# Altium schematic symbol library Battery_Management.SchLib: 152 symbols (part 2 of 2)
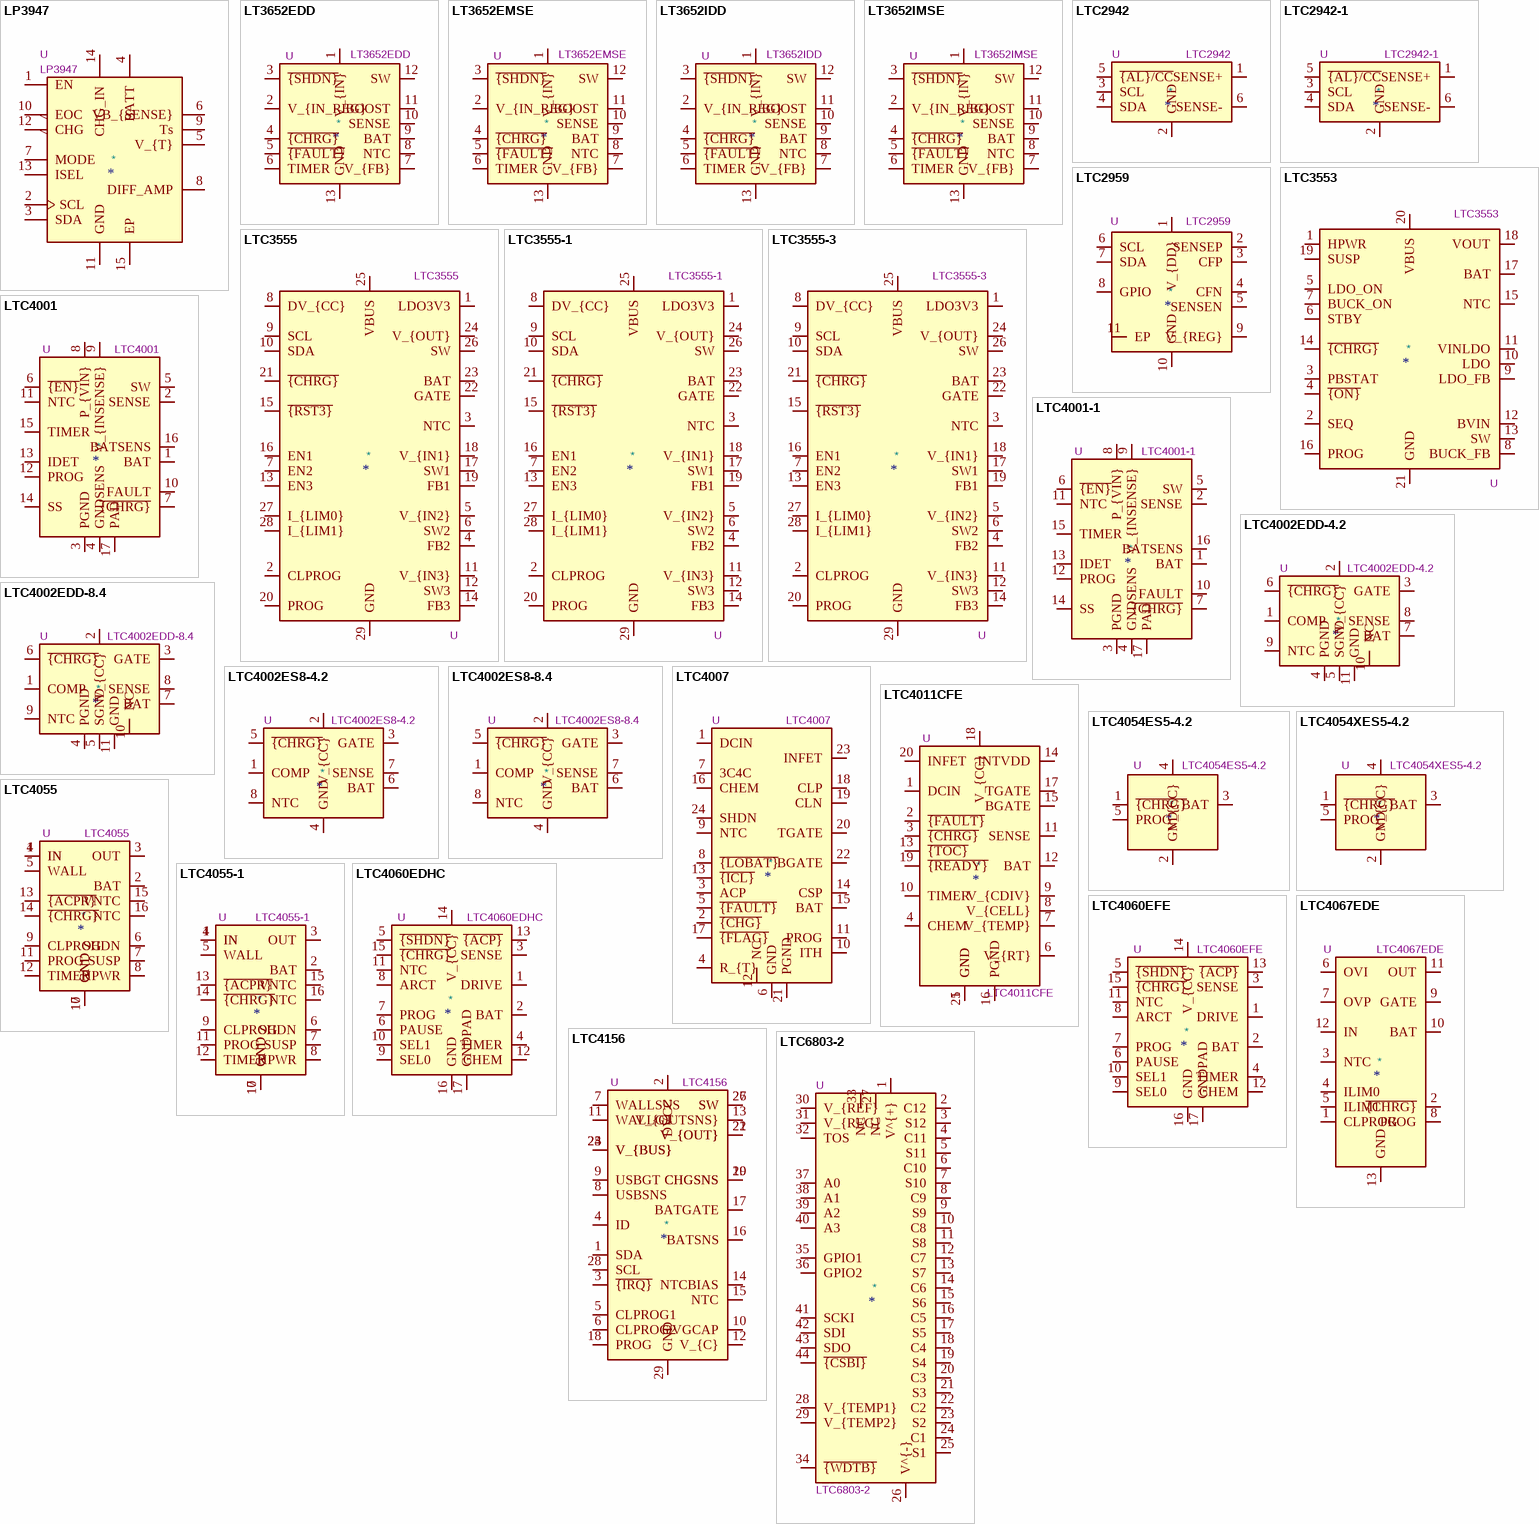
[diagram p5: symbols LP3947 to LTC6803-2]

## LTC4002ES8-4.2
designator *  value LTC4002ES8-4.2  Reference: U
Standalone Li-Ion Switch Mode Battery Charger, 4.7-22V input, single cell, SOIC-8; ki_keywords: lithium li-ion battery charger; ki_fp_filters: SOIC*8*3.9x4.9mm*P1.27mm*; Footprint: Package_SO:SOIC-8_3.9x4.9mm_P1.27mm; Datasheet: https://www.analog.com/media/en/technical-documentation/data-sheets/4002f.pdf; Description_: Standalone Li-Ion Switch Mode Battery Charger, 4.7-22V input, single cell, SOIC-8
pins: 1 COMP, 2 V_{CC}, 3 GATE, 4 GND, 5 ~{{CHRG}}, 6 BAT, 7 SENSE, 8 NTC

## LTC4002ES8-8.4
designator *  value LTC4002ES8-8.4  Reference: U
Standalone Li-Ion Switch Mode Battery Charger, 8.9-22V input, double cell, SOIC-8; ki_keywords: lithium li-ion battery charger; ki_fp_filters: SOIC*8*3.9x4.9mm*P1.27mm*; Footprint: Package_SO:SOIC-8_3.9x4.9mm_P1.27mm; Datasheet: https://www.analog.com/media/en/technical-documentation/data-sheets/4002f.pdf; Description_: Standalone Li-Ion Switch Mode Battery Charger, 8.9-22V input, double cell, SOIC-8
pins: 1 COMP, 2 V_{CC}, 3 GATE, 4 GND, 5 ~{{CHRG}}, 6 BAT, 7 SENSE, 8 NTC

## LTC4007
designator *  value LTC4007  Reference: U
4A high efficiency standalone Li-ion battery charger, SSOP-24; ki_keywords: lithium ion polymer li-po battery; ki_fp_filters: SSOP*3.9x8.7mm*P0.635mm*; Footprint: Package_SO:SSOP-24_3.9x8.7mm_P0.635mm; Datasheet: https://www.analog.com/media/en/technical-documentation/data-sheets/4007fc.pdf; Description_: 4A high efficiency standalone Li-ion battery charger, SSOP-24
pins: 1 DCIN, 2 ~{{CHG}}, 3 ACP, 4 R_{T}, 5 ~{{FAULT}}, 6 GND, 7 3C4C, 8 ~{{LOBAT}}, 9 NTC, 10 ITH, 11 PROG, 12 NC, 13 ~{{ICL}}, 14 CSP, 15 BAT, 16 CHEM, 17 ~{{FLAG}}, 18 CLP, 19 CLN, 20 TGATE, 21 PGND, 22 BGATE, 23 INFET, 24 SHDN

## LTC4011CFE
designator *  value LTC4011CFE  Reference: U
High efficiency standalone NiMH battery charger, HTSSOP-20; ki_keywords: NiMH nickel battery charger; ki_fp_filters: HTSSOP*1EP*4.4x6.5mm*P0.65mm*; Footprint: Package_SO:HTSSOP-20-1EP_4.4x6.5mm_P0.65mm_EP2.74x3.86mm; Datasheet: https://www.analog.com/media/en/technical-documentation/data-sheets/4011fb.pdf; Description_: High efficiency standalone NiMH battery charger, HTSSOP-20
pins: 1 DCIN, 2 ~{{FAULT}}, 3 ~{{CHRG}}, 4 CHEM, 5 GND, 6 V_{RT}, 7 V_{TEMP}, 8 V_{CELL}, 9 V_{CDIV}, 10 TIMER, 11 SENSE, 12 BAT, 13 ~{{TOC}}, 14 INTVDD, 15 BGATE, 16 PGND, 17 TGATE, 18 V_{CC}, 19 ~{{READY}}, 20 INFET, 21 GND

## LTC4054ES5-4.2
designator *  value LTC4054ES5-4.2  Reference: U
Constant-current/constant-voltage linear charger for single cell lithium-ion batteries with 2.9V Trickle Charge, 4.5V to 6.5V VDD, -40 to +85 degree Celsius, TSOT-23-5; ki_keywords: Constant-current constant-voltage linear charger single cell lithium-ion battery; ki_fp_filters: TSOT?23*; Footprint: Package_TO_SOT_SMD:TSOT-23-5; Datasheet: https://www.analog.com/media/en/technical-documentation/data-sheets/405442xf.pdf; Description_: Constant-current/constant-voltage linear charger for single cell lithium-ion batteries with 2.9V Trickle Charge, 4.5V to 6.5V VDD, -40 to +85 degree Celsius, TSOT-23-5
pins: 1 ~{{CHRG}}, 2 GND, 3 BAT, 4 V_{CC}, 5 PROG

## LTC4054XES5-4.2
designator *  value LTC4054XES5-4.2  Reference: U
Constant-current/constant-voltage linear charger for single cell lithium-ion batteries no Trickle Charge, 4.5V to 6.5V VDD, -40 to +85 degree Celsius, TSOT-23-5; ki_keywords: Constant-current constant-voltage linear charger single cell lithium-ion battery; ki_fp_filters: TSOT?23*; Footprint: Package_TO_SOT_SMD:TSOT-23-5; Datasheet: https://www.analog.com/media/en/technical-documentation/data-sheets/405442xf.pdf; Description_: Constant-current/constant-voltage linear charger for single cell lithium-ion batteries no Trickle Charge, 4.5V to 6.5V VDD, -40 to +85 degree Celsius, TSOT-23-5
pins: 1 ~{{CHRG}}, 2 GND, 3 BAT, 4 V_{CC}, 5 PROG

## LTC4055
designator *  value LTC4055  Reference: U
USB Power Controller and Li-Ion Charger (4.2V Float Voltage); ki_keywords: charger PMIC Liion USB; ki_fp_filters: QFN*1EP*4x4mm*P0.65mm*; Footprint: Package_DFN_QFN:QFN-16-1EP_4x4mm_P0.65mm_EP2.15x2.15mm; Datasheet: https://www.analog.com/media/en/technical-documentation/data-sheets/4055fb.pdf; Description_: USB Power Controller and Li-Ion Charger (4.2V Float Voltage)
pins: 1 IN, 2 BAT, 3 OUT, 4 IN, 5 WALL, 6 SHDN, 7 SUSP, 8 HPWR, 9 CLPROG, 10 GND, 11 PROG, 12 TIMER, 13 ~{{ACPR}}, 14 ~{{CHRG}}, 15 VNTC, 16 NTC, 17 GND

## LTC4055-1
designator *  value LTC4055-1  Reference: U
USB Power Controller and Li-Ion Charger (4.1V Float Voltage); ki_keywords: charger PMIC Liion USB; ki_fp_filters: QFN*1EP*4x4mm*P0.65mm*; Footprint: Package_DFN_QFN:QFN-16-1EP_4x4mm_P0.65mm_EP2.15x2.15mm; Datasheet: https://www.analog.com/media/en/technical-documentation/data-sheets/4055fb.pdf; Description_: USB Power Controller and Li-Ion Charger (4.1V Float Voltage)
pins: 1 IN, 2 BAT, 3 OUT, 4 IN, 5 WALL, 6 SHDN, 7 SUSP, 8 HPWR, 9 CLPROG, 10 GND, 11 PROG, 12 TIMER, 13 ~{{ACPR}}, 14 ~{{CHRG}}, 15 VNTC, 16 NTC, 17 GND

## LTC4060EDHC
designator *  value LTC4060EDHC  Reference: U
Complete fast charging system for 2, 3 or 4 series NiMH or NiCd batteries, 0.4 to 2A, 4.5 to 10V VDD, -40 to +85 degree Celcisus, DFN-16; ki_keywords: battery charger; ki_fp_filters: DFN*1EP*3x5mm*P0.5mm*; Footprint: Package_DFN_QFN:DFN-16-1EP_3x5mm_P0.5mm_EP1.66x4.4mm; Datasheet: https://www.analog.com/media/en/technical-documentation/data-sheets/405442xf.pdf; Description_: Complete fast charging system for 2, 3 or 4 series NiMH or NiCd batteries, 0.4 to 2A, 4.5 to 10V VDD, -40 to +85 degree Celcisus, DFN-16
pins: 1 DRIVE, 2 BAT, 3 SENSE, 4 TIMER, 5 ~{{SHDN}}, 6 PAUSE, 7 PROG, 8 ARCT, 9 SEL0, 10 SEL1, 11 NTC, 12 CHEM, 13 ~{{ACP}}, 14 V_{CC}, 15 ~{{CHRG}}, 16 GND, 17 GNDPAD

## LTC4060EFE
designator *  value LTC4060EFE  Reference: U
Complete fast charging system for 2, 3 or 4 series NiMH or NiCd batteries, 0.4 to 2A, 4.5 to 10V VDD, -40 to +85 degree Celcisus, TSSOP-16; ki_keywords: battery charger; ki_fp_filters: TSSOP*EP*4.4x5mm*P0.65mm*; Footprint: Package_SO:TSSOP-16-1EP_4.4x5mm_P0.65mm; Datasheet: https://www.analog.com/media/en/technical-documentation/data-sheets/405442xf.pdf; Description_: Complete fast charging system for 2, 3 or 4 series NiMH or NiCd batteries, 0.4 to 2A, 4.5 to 10V VDD, -40 to +85 degree Celcisus, TSSOP-16
pins: 1 DRIVE, 2 BAT, 3 SENSE, 4 TIMER, 5 ~{{SHDN}}, 6 PAUSE, 7 PROG, 8 ARCT, 9 SEL0, 10 SEL1, 11 NTC, 12 CHEM, 13 ~{{ACP}}, 14 V_{CC}, 15 ~{{CHRG}}, 16 GND, 17 GNDPAD

## LTC4067EDE
designator *  value LTC4067EDE  Reference: U
Li-Ion Battery Manager and Charger, Power Switcher, 1.25A max charge current, DFN-12; ki_keywords: Polymer NTC constant-current; ki_fp_filters: DFN*3x4mm*; Footprint: Package_DFN_QFN:DFN-12-1EP_3x4mm_P0.5mm_EP1.7x3.3mm; Datasheet: https://www.analog.com/media/en/technical-documentation/data-sheets/4067f.pdf; Description_: Li-Ion Battery Manager and Charger, Power Switcher, 1.25A max charge current, DFN-12
pins: 1 CLPROG, 2 ~{{CHRG}}, 3 NTC, 4 ILIM0, 5 ILIM1, 6 OVI, 7 OVP, 8 PROG, 9 GATE, 10 BAT, 11 OUT, 12 IN, 13 GND

## LTC4156
designator *  value LTC4156  Reference: U
Dual-Input Power Manager / 3.5A LiFePO4 Battery Charger with I2C Control and USB OTG, QFN-28; ki_keywords: lifepo charger PMIC USB; ki_fp_filters: QFN*1EP*4x5mm*P0.5mm*; Footprint: Package_DFN_QFN:QFN-28-1EP_4x5mm_P0.5mm_EP2.65x3.65mm; Datasheet: https://www.analog.com/media/en/technical-documentation/data-sheets/4156fa.pdf; Description_: Dual-Input Power Manager / 3.5A LiFePO4 Battery Charger with I2C Control and USB OTG, QFN-28
pins: 1 SDA, 2 DVCC, 3 ~{{IRQ}}, 4 ID, 5 CLPROG1, 6 CLPROG2, 7 WALLSNS, 8 USBSNS, 9 USBGT, 10 OVGCAP, 11 WALLGT, 12 V_{C}, 13 V_{OUTSNS}, 14 NTCBIAS, 15 NTC, 16 BATSNS, 17 BATGATE, 18 PROG, 19 CHGSNS, 20 CHGSNS, 21 V_{OUT}, 22 V_{OUT}, 23 V_{BUS}, 24 V_{BUS}, 25 V_{BUS}, 26 SW, 27 SW, 28 SCL, 29 GND

## LTC6803-2
designator *  value LTC6803-2  Reference: U
Multicell Battery Stack Monitor, 12-cell max, multi-chemistry, integrated balancing, stackable, serial interface; ki_keywords: battery balance afe; ki_fp_filters: SSOP*5.3x12.8mm*P0.5mm*; Footprint: Package_SO:SSOP-44_5.3x12.8mm_P0.5mm; Datasheet: https://www.analog.com/media/en/technical-documentation/data-sheets/680324fa.pdf; Description_: Multicell Battery Stack Monitor, 12-cell max, multi-chemistry, integrated balancing, stackable, serial interface
pins: 1 V^{+}, 2 C12, 3 S12, 4 C11, 5 S11, 6 C10, 7 S10, 8 C9, 9 S9, 10 C8, 11 S8, 12 C7, 13 S7, 14 C6, 15 S6, 16 C5, 17 S5, 18 C4, 19 S4, 20 C3, 21 S3, 22 C2, 23 S2, 24 C1, 25 S1, 26 V^{-}, 27 NC, 28 V_{TEMP1}, 29 V_{TEMP2}, 30 V_{REF}, 31 V_{REG}, 32 TOS, 33 NC, 34 ~{{WDTB}}, 35 GPIO1, 36 GPIO2, 37 A0, 38 A1, 39 A2, 40 A3, 41 SCKI, 42 SDI, 43 SDO, 44 ~{{CSBI}}

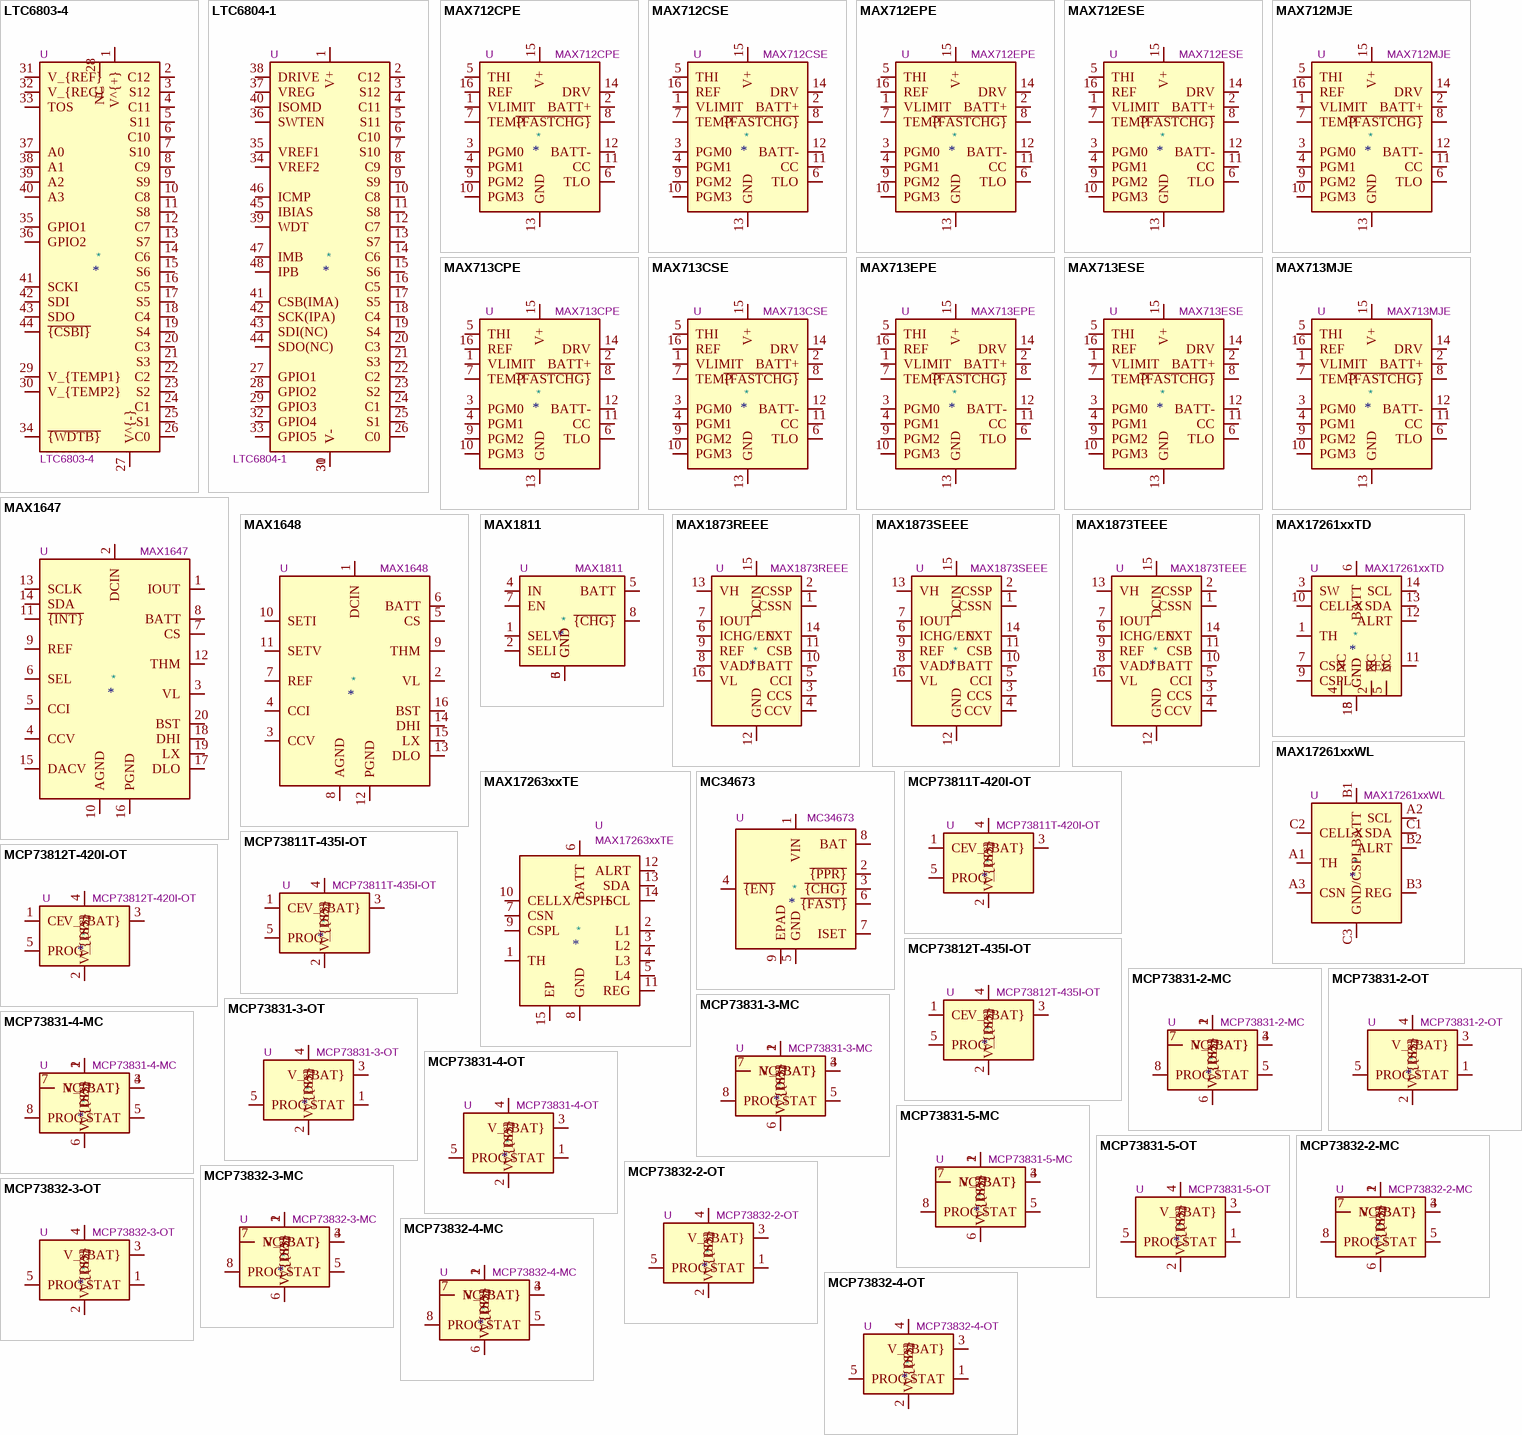
[diagram p3: symbols LTC6803-4 to MCP73832-4-OT]

## LTC6803-4
designator *  value LTC6803-4  Reference: U
Multicell Battery Stack Monitor, 12-cell max, multi-chemistry, integrated balancing, stackable, serial interface; ki_keywords: battery balance afe; ki_fp_filters: SSOP*5.3x12.8mm*P0.5mm*; Footprint: Package_SO:SSOP-44_5.3x12.8mm_P0.5mm; Datasheet: https://www.analog.com/media/en/technical-documentation/data-sheets/680324fa.pdf; Description_: Multicell Battery Stack Monitor, 12-cell max, multi-chemistry, integrated balancing, stackable, serial interface
pins: 1 V^{+}, 2 C12, 3 S12, 4 C11, 5 S11, 6 C10, 7 S10, 8 C9, 9 S9, 10 C8, 11 S8, 12 C7, 13 S7, 14 C6, 15 S6, 16 C5, 17 S5, 18 C4, 19 S4, 20 C3, 21 S3, 22 C2, 23 S2, 24 C1, 25 S1, 26 C0, 27 V^{-}, 28 NC, 29 V_{TEMP1}, 30 V_{TEMP2}, 31 V_{REF}, 32 V_{REG}, 33 TOS, 34 ~{{WDTB}}, 35 GPIO1, 36 GPIO2, 37 A0, 38 A1, 39 A2, 40 A3, 41 SCKI, 42 SDI, 43 SDO, 44 ~{{CSBI}}

## LTC6804-1
designator *  value LTC6804-1  Reference: U
Multicell Battery Stack Monitor, 12-cell max, multi-chemistry, integrated balancing, stackable, serial interface, SSOP-48; ki_keywords: battery balance afe; ki_fp_filters: SSOP*5.3x12.8mm*P0.5mm*; Footprint: Package_SO:SSOP-48_5.3x12.8mm_P0.5mm; Datasheet: https://www.analog.com/media/en/technical-documentation/data-sheets/680412fc.pdf; Description_: Multicell Battery Stack Monitor, 12-cell max, multi-chemistry, integrated balancing, stackable, serial interface, SSOP-48
pins: 1 V+, 2 C12, 3 S12, 4 C11, 5 S11, 6 C10, 7 S10, 8 C9, 9 S9, 10 C8, 11 S8, 12 C7, 13 S7, 14 C6, 15 S6, 16 C5, 17 S5, 18 C4, 19 S4, 20 C3, 21 S3, 22 C2, 23 S2, 24 C1, 25 S1, 26 C0, 27 GPIO1, 28 GPIO2, 29 GPIO3, 30 V-, 31 V-, 32 GPIO4, 33 GPIO5, 34 VREF2, 35 VREF1, 36 SWTEN, 37 VREG, 38 DRIVE, 39 WDT, 40 ISOMD, 41 CSB(IMA), 42 SCK(IPA), 43 SDI(NC), 44 SDO(NC), 45 IBIAS, 46 ICMP, 47 IMB, 48 IPB

## MAX712CPE
designator *  value MAX712CPE  Reference: U
Fast-charge Nickel Metal Hydride (NiMH) from a DC source, 0 to +70 Degree Celsius, PDIP-16; ki_keywords: battery charger controller; ki_fp_filters: DIP*W7.62mm*; Footprint: Package_DIP:DIP-16_W7.62mm; Datasheet: https://datasheets.maximintegrated.com/en/ds/MAX712-MAX713.pdf; Description_: Fast-charge Nickel Metal Hydride (NiMH) from a DC source, 0 to +70 Degree Celsius, PDIP-16
pins: 1 VLIMIT, 2 BATT+, 3 PGM0, 4 PGM1, 5 THI, 6 TLO, 7 TEMP, 8 ~{{FASTCHG}}, 9 PGM2, 10 PGM3, 11 CC, 12 BATT-, 13 GND, 14 DRV, 15 V+, 16 REF

## MAX712CSE
designator *  value MAX712CSE  Reference: U
Fast-charge Nickel Metal Hydride (NiMH) from a DC source, 0 to +70 Degree Celsius, SOIC-16; ki_keywords: battery charger controller; ki_fp_filters: SOIC*3.9x9.9mm*P1.27mm*; Footprint: Package_SO:SOIC-16_3.9x9.9mm_P1.27mm; Datasheet: https://datasheets.maximintegrated.com/en/ds/MAX712-MAX713.pdf; Description_: Fast-charge Nickel Metal Hydride (NiMH) from a DC source, 0 to +70 Degree Celsius, SOIC-16
pins: 1 VLIMIT, 2 BATT+, 3 PGM0, 4 PGM1, 5 THI, 6 TLO, 7 TEMP, 8 ~{{FASTCHG}}, 9 PGM2, 10 PGM3, 11 CC, 12 BATT-, 13 GND, 14 DRV, 15 V+, 16 REF

## MAX712EPE
designator *  value MAX712EPE  Reference: U
Fast-charge Nickel Metal Hydride (NiMH) from a DC source, -40 to +85 Degree Celsius, PDIP-16; ki_keywords: battery charger controller; ki_fp_filters: DIP*W7.62mm*; Footprint: Package_DIP:DIP-16_W7.62mm; Datasheet: https://datasheets.maximintegrated.com/en/ds/MAX712-MAX713.pdf; Description_: Fast-charge Nickel Metal Hydride (NiMH) from a DC source, -40 to +85 Degree Celsius, PDIP-16
pins: 1 VLIMIT, 2 BATT+, 3 PGM0, 4 PGM1, 5 THI, 6 TLO, 7 TEMP, 8 ~{{FASTCHG}}, 9 PGM2, 10 PGM3, 11 CC, 12 BATT-, 13 GND, 14 DRV, 15 V+, 16 REF

## MAX712ESE
designator *  value MAX712ESE  Reference: U
Fast-charge Nickel Metal Hydride (NiMH) from a DC source, -40 to +85 Degree Celsius, SOIC-16; ki_keywords: battery charger controller; ki_fp_filters: SOIC*3.9x9.9mm*P1.27mm*; Footprint: Package_SO:SOIC-16_3.9x9.9mm_P1.27mm; Datasheet: https://datasheets.maximintegrated.com/en/ds/MAX712-MAX713.pdf; Description_: Fast-charge Nickel Metal Hydride (NiMH) from a DC source, -40 to +85 Degree Celsius, SOIC-16
pins: 1 VLIMIT, 2 BATT+, 3 PGM0, 4 PGM1, 5 THI, 6 TLO, 7 TEMP, 8 ~{{FASTCHG}}, 9 PGM2, 10 PGM3, 11 CC, 12 BATT-, 13 GND, 14 DRV, 15 V+, 16 REF

## MAX712MJE
designator *  value MAX712MJE  Reference: U
Fast-charge Nickel Metal Hydride (NiMH) from a DC source, ceramic, -55 to +125 Degree Celsius, PDIP-16; ki_keywords: battery charger controller; ki_fp_filters: DIP*W7.62mm*; Footprint: Package_DIP:DIP-16_W7.62mm; Datasheet: https://datasheets.maximintegrated.com/en/ds/MAX712-MAX713.pdf; Description_: Fast-charge Nickel Metal Hydride (NiMH) from a DC source, ceramic, -55 to +125 Degree Celsius, PDIP-16
pins: 1 VLIMIT, 2 BATT+, 3 PGM0, 4 PGM1, 5 THI, 6 TLO, 7 TEMP, 8 ~{{FASTCHG}}, 9 PGM2, 10 PGM3, 11 CC, 12 BATT-, 13 GND, 14 DRV, 15 V+, 16 REF

## MAX713CPE
designator *  value MAX713CPE  Reference: U
Fast-charge Nickel Cadmium (NiCd) from a DC source, 0 to +70 Degree Celsius, PDIP-16; ki_keywords: battery charger controller; ki_fp_filters: DIP*W7.62mm*; Footprint: Package_DIP:DIP-16_W7.62mm; Datasheet: https://datasheets.maximintegrated.com/en/ds/MAX712-MAX713.pdf; Description_: Fast-charge Nickel Cadmium (NiCd) from a DC source, 0 to +70 Degree Celsius, PDIP-16
pins: 1 VLIMIT, 2 BATT+, 3 PGM0, 4 PGM1, 5 THI, 6 TLO, 7 TEMP, 8 ~{{FASTCHG}}, 9 PGM2, 10 PGM3, 11 CC, 12 BATT-, 13 GND, 14 DRV, 15 V+, 16 REF

## MAX713CSE
designator *  value MAX713CSE  Reference: U
Fast-charge Nickel Cadmium (NiCd) from a DC source, 0 to +70 Degree Celsius, SOIC-16; ki_keywords: battery charger controller; ki_fp_filters: SOIC*3.9x9.9mm*P1.27mm*; Footprint: Package_SO:SOIC-16_3.9x9.9mm_P1.27mm; Datasheet: https://datasheets.maximintegrated.com/en/ds/MAX712-MAX713.pdf; Description_: Fast-charge Nickel Cadmium (NiCd) from a DC source, 0 to +70 Degree Celsius, SOIC-16
pins: 1 VLIMIT, 2 BATT+, 3 PGM0, 4 PGM1, 5 THI, 6 TLO, 7 TEMP, 8 ~{{FASTCHG}}, 9 PGM2, 10 PGM3, 11 CC, 12 BATT-, 13 GND, 14 DRV, 15 V+, 16 REF

## MAX713EPE
designator *  value MAX713EPE  Reference: U
Fast-charge Nickel Cadmium (NiCd) from a DC source, -40 to +85 Degree Celsius, PDIP-16; ki_keywords: battery charger controller; ki_fp_filters: DIP*W7.62mm*; Footprint: Package_DIP:DIP-16_W7.62mm; Datasheet: https://datasheets.maximintegrated.com/en/ds/MAX712-MAX713.pdf; Description_: Fast-charge Nickel Cadmium (NiCd) from a DC source, -40 to +85 Degree Celsius, PDIP-16
pins: 1 VLIMIT, 2 BATT+, 3 PGM0, 4 PGM1, 5 THI, 6 TLO, 7 TEMP, 8 ~{{FASTCHG}}, 9 PGM2, 10 PGM3, 11 CC, 12 BATT-, 13 GND, 14 DRV, 15 V+, 16 REF

## MAX713ESE
designator *  value MAX713ESE  Reference: U
Fast-charge Nickel Cadmium (NiCd) from a DC source, -40 to +85 Degree Celsius, SOIC-16; ki_keywords: battery charger controller; ki_fp_filters: SOIC*3.9x9.9mm*P1.27mm*; Footprint: Package_SO:SOIC-16_3.9x9.9mm_P1.27mm; Datasheet: https://datasheets.maximintegrated.com/en/ds/MAX712-MAX713.pdf; Description_: Fast-charge Nickel Cadmium (NiCd) from a DC source, -40 to +85 Degree Celsius, SOIC-16
pins: 1 VLIMIT, 2 BATT+, 3 PGM0, 4 PGM1, 5 THI, 6 TLO, 7 TEMP, 8 ~{{FASTCHG}}, 9 PGM2, 10 PGM3, 11 CC, 12 BATT-, 13 GND, 14 DRV, 15 V+, 16 REF

## MAX713MJE
designator *  value MAX713MJE  Reference: U
Fast-charge Nickel Cadmium (NiCd) from a DC source, ceramic, -55 to +125 Degree Celsius, PDIP-16; ki_keywords: battery charger controller; ki_fp_filters: DIP*W7.62mm*; Footprint: Package_DIP:DIP-16_W7.62mm; Datasheet: https://datasheets.maximintegrated.com/en/ds/MAX712-MAX713.pdf; Description_: Fast-charge Nickel Cadmium (NiCd) from a DC source, ceramic, -55 to +125 Degree Celsius, PDIP-16
pins: 1 VLIMIT, 2 BATT+, 3 PGM0, 4 PGM1, 5 THI, 6 TLO, 7 TEMP, 8 ~{{FASTCHG}}, 9 PGM2, 10 PGM3, 11 CC, 12 BATT-, 13 GND, 14 DRV, 15 V+, 16 REF

## MAX1647
designator *  value MAX1647  Reference: U
Smart Battery Charger, 18V battery, 28V input, SMBus serial interface; ki_fp_filters: SSOP*5.3x7.2mm*P0.65mm*; Footprint: Package_SO:SSOP-20_5.3x7.2mm_P0.65mm; Datasheet: https://datasheets.maximintegrated.com/en/ds/MAX1647-MAX1648.pdf; Description_: Smart Battery Charger, 18V battery, 28V input, SMBus serial interface; ki_keywords: battery charger
pins: 1 IOUT, 2 DCIN, 3 VL, 4 CCV, 5 CCI, 6 SEL, 7 CS, 8 BATT, 9 REF, 10 AGND, 11 ~{{INT}}, 12 THM, 13 SCLK, 14 SDA, 15 DACV, 16 PGND, 17 DLO, 18 DHI, 19 LX, 20 BST

## MAX1648
designator *  value MAX1648  Reference: U
Smart Battery Charger, 18V battery, 28V input, standalone; ki_fp_filters: SOIC*3.9x9.9mm*P1.27mm*; Footprint: Package_SO:SOIC-16_3.9x9.9mm_P1.27mm; Datasheet: https://datasheets.maximintegrated.com/en/ds/MAX1647-MAX1648.pdf; Description_: Smart Battery Charger, 18V battery, 28V input, standalone; ki_keywords: battery charger
pins: 1 DCIN, 2 VL, 3 CCV, 4 CCI, 5 CS, 6 BATT, 7 REF, 8 AGND, 9 THM, 10 SETI, 11 SETV, 12 PGND, 13 DLO, 14 DHI, 15 LX, 16 BST

## MAX1811
designator *  value MAX1811  Reference: U
USB Powered Li+ Charger, 4.1V/4.2V battery, 5V input, 0.1/0.5A charging current; ki_keywords: USB Battery Charger; ki_fp_filters: SOIC*; Footprint: Package_SO:SOIC-8_3.9x4.9mm_P1.27mm; Datasheet: https://datasheets.maximintegrated.com/en/ds/MAX1811.pdf; Description_: USB Powered Li+ Charger, 4.1V/4.2V battery, 5V input, 0.1/0.5A charging current
pins: 1 SELV, 2 SELI, 3 GND, 4 IN, 5 BATT, 6 GND, 7 EN, 8 ~{{CHG}}

## MAX1873REEE
designator *  value MAX1873REEE  Reference: U
Charger for 2 lithium-ion (Li+), 5/6 NickelCadium (NiCD) cells or 5/6 NickelMetalHydride (NiMH), 9 to 28V VDD, -40 to +85 degree Celsius, QSOP-16; ki_keywords: li-ion battery charger; ki_fp_filters: QSOP*3.9x4.9mm*P0.635mm*; Footprint: Package_SO:QSOP-16_3.9x4.9mm_P0.635mm; Datasheet: https://datasheets.maximintegrated.com/en/ds/MAX1873.pdf; Description_: Charger for 2 lithium-ion (Li+), 5/6 NickelCadium (NiCD) cells or 5/6 NickelMetalHydride (NiMH), 9 to 28V VDD, -40 to +85 degree Celsius, QSOP-16
pins: 1 CSSN, 2 CSSP, 3 CCS, 4 CCV, 5 CCI, 6 ICHG/EN, 7 IOUT, 8 VADJ, 9 REF, 10 BATT, 11 CSB, 12 GND, 13 VH, 14 EXT, 15 DCIN, 16 VL

## MAX1873SEEE
designator *  value MAX1873SEEE  Reference: U
Charger for 3 lithium-ion (Li+), 7/9 NickelCadium (NiCD) cells or 7/9 NickelMetalHydride (NiMH), 9 to 28V VDD, -40 to +85 degree Celsius, QSOP-16; ki_keywords: li-ion battery charger; ki_fp_filters: QSOP*3.9x4.9mm*P0.635mm*; Footprint: Package_SO:QSOP-16_3.9x4.9mm_P0.635mm; Datasheet: https://datasheets.maximintegrated.com/en/ds/MAX1873.pdf; Description_: Charger for 3 lithium-ion (Li+), 7/9 NickelCadium (NiCD) cells or 7/9 NickelMetalHydride (NiMH), 9 to 28V VDD, -40 to +85 degree Celsius, QSOP-16
pins: 1 CSSN, 2 CSSP, 3 CCS, 4 CCV, 5 CCI, 6 ICHG/EN, 7 IOUT, 8 VADJ, 9 REF, 10 BATT, 11 CSB, 12 GND, 13 VH, 14 EXT, 15 DCIN, 16 VL

## MAX1873TEEE
designator *  value MAX1873TEEE  Reference: U
Charger for 4 lithium-ion (Li+), 10 NickelCadium (NiCD) cells or 10 NickelMetalHydride (NiMH), 9 to 28V VDD, -40 to +85 degree Celsius, QSOP-16; ki_keywords: li-ion battery charger; ki_fp_filters: QSOP*3.9x4.9mm*P0.635mm*; Footprint: Package_SO:QSOP-16_3.9x4.9mm_P0.635mm; Datasheet: https://datasheets.maximintegrated.com/en/ds/MAX1873.pdf; Description_: Charger for 4 lithium-ion (Li+), 10 NickelCadium (NiCD) cells or 10 NickelMetalHydride (NiMH), 9 to 28V VDD, -40 to +85 degree Celsius, QSOP-16
pins: 1 CSSN, 2 CSSP, 3 CCS, 4 CCV, 5 CCI, 6 ICHG/EN, 7 IOUT, 8 VADJ, 9 REF, 10 BATT, 11 CSB, 12 GND, 13 VH, 14 EXT, 15 DCIN, 16 VL

## MAX17261xxTD
designator *  value MAX17261xxTD  Reference: U
5.1μA Multi-Cell Fuel Gauge with ModelGauge m5 EZ, TDFN-14; ki_keywords: Charge pump battery; ki_fp_filters: TDFN*1EP*3x3mm*P0.4mm*; Footprint: Package_DFN_QFN:TDFN-14-1EP_3x3mm_P0.4mm_EP1.78x2.35mm; Datasheet: https://datasheets.maximintegrated.com/en/ds/MAX17261.pdf; Description_: 5.1μA Multi-Cell Fuel Gauge with ModelGauge m5 EZ, TDFN-14
pins: 1 TH, 2 NC, 3 SW, 4 NC, 5 NC, 6 BATT, 7 CSN, 8 GND, 9 CSPL, 10 CELLX, 11 REG, 12 ALRT, 13 SDA, 14 SCL, 15 GND

## MAX17261xxWL
designator *  value MAX17261xxWL  Reference: U
5.1μA Multi-Cell Fuel Gauge with ModelGauge m5 EZ, WLP-9; ki_keywords: Charge pump battery; ki_fp_filters: Maxim*WLP*1.595x1.415*Layout3x3*P0.4mm*; Footprint: Package_BGA:Maxim_WLP-9_1.595x1.415_Layout3x3_P0.4mm_Ball0.27mm_Pad0.25mm_NSMD; Datasheet: https://datasheets.maximintegrated.com/en/ds/MAX17261.pdf; Description_: 5.1μA Multi-Cell Fuel Gauge with ModelGauge m5 EZ, WLP-9
pins: A1 TH, A2 SCL, A3 CSN, B1 BATT, B2 ALRT, B3 REG, C1 SDA, C2 CELLX, C3 GND/CSPL

## MAX17263xxTE
designator *  value MAX17263xxTE  Reference: U
Single/Multi-Cell Fuel Gauge, ModelGauge m5 EZ, Integrated LED Control, TDFN-14; ki_keywords: fuel-gauge; ki_fp_filters: DFN*1EP*3x3mm*P0.4mm*; Footprint: Package_DFN_QFN:DFN-14-1EP_3x3mm_P0.4mm_EP1.78x2.35mm; Datasheet: https://datasheets.maximintegrated.com/en/ds/MAX17263.pdf; Description_: Single/Multi-Cell Fuel Gauge, ModelGauge m5 EZ, Integrated LED Control, TDFN-14
pins: 1 TH, 2 L1, 3 L2, 4 L3, 5 L4, 6 BATT, 7 CSN, 8 GND, 9 CSPL, 10 CELLX/CSPH, 11 REG, 12 ALRT, 13 SDA, 14 SCL, 15 EP

## MC34673
designator *  value MC34673  Reference: U
High Input Voltage 1.2A Charger for Single-cell Li-Ion Batteries, UDFN-8; ki_keywords: Lithium-Ion Battery Charger; ki_fp_filters: DFN*3x2mm*P0.5mm*; Footprint: Package_DFN_QFN:DFN-8-1EP_3x2mm_P0.5mm_EP1.75x1.45mm; Datasheet: http://www.nxp.com/docs/en/data-sheet/MC34673.pdf; Description_: High Input Voltage 1.2A Charger for Single-cell Li-Ion Batteries, UDFN-8
pins: 1 VIN, 2 ~{{PPR}}, 3 ~{{CHG}}, 4 ~{{EN}}, 5 GND, 6 ~{{FAST}}, 7 ISET, 8 BAT, 9 EPAD

## MCP73811T-420I-OT
designator *  value MCP73811T-420I-OT  Reference: U
Simple, Miniature Single-Cell, Fully Integrated Li-Ion / Li-Polymer Charge Management Controllers, 85mA/450mA, 4.2V, SOT23-5; ki_keywords: Lithium-Ion Battery Charger; ki_fp_filters: SOT?23*; Footprint: Package_TO_SOT_SMD:SOT-23-5; Datasheet: http://ww1.microchip.com/downloads/en/DeviceDoc/22036b.pdf; Description_: Simple, Miniature Single-Cell, Fully Integrated Li-Ion / Li-Polymer Charge Management Controllers, 85mA/450mA, 4.2V, SOT23-5
pins: 1 CE, 2 V_{SS}, 3 V_{BAT}, 4 V_{DD}, 5 PROG

## MCP73811T-435I-OT
designator *  value MCP73811T-435I-OT  Reference: U
Simple, Miniature Single-Cell, Fully Integrated Li-Ion / Li-Polymer Charge Management Controllers, 85mA/450mA, 4.35V, SOT23-5; ki_keywords: Lithium-Ion Battery Charger; ki_fp_filters: SOT?23*; Footprint: Package_TO_SOT_SMD:SOT-23-5; Datasheet: http://ww1.microchip.com/downloads/en/DeviceDoc/22036b.pdf; Description_: Simple, Miniature Single-Cell, Fully Integrated Li-Ion / Li-Polymer Charge Management Controllers, 85mA/450mA, 4.35V, SOT23-5
pins: 1 CE, 2 V_{SS}, 3 V_{BAT}, 4 V_{DD}, 5 PROG

## MCP73812T-420I-OT
designator *  value MCP73812T-420I-OT  Reference: U
Simple, Miniature Single-Cell, Fully Integrated Li-Ion / Li-Polymer Charge Management Controllers, 50mA-500mA, 4.2V, SOT23-5; ki_keywords: Lithium-Ion Battery Charger; ki_fp_filters: SOT?23*; Footprint: Package_TO_SOT_SMD:SOT-23-5; Datasheet: http://ww1.microchip.com/downloads/en/DeviceDoc/22036b.pdf; Description_: Simple, Miniature Single-Cell, Fully Integrated Li-Ion / Li-Polymer Charge Management Controllers, 50mA-500mA, 4.2V, SOT23-5
pins: 1 CE, 2 V_{SS}, 3 V_{BAT}, 4 V_{DD}, 5 PROG

## MCP73812T-435I-OT
designator *  value MCP73812T-435I-OT  Reference: U
Simple, Miniature Single-Cell, Fully Integrated Li-Ion / Li-Polymer Charge Management Controllers, 50mA-500mA, 4.35V, SOT23-5; ki_keywords: Lithium-Ion Battery Charger; ki_fp_filters: SOT?23*; Footprint: Package_TO_SOT_SMD:SOT-23-5; Datasheet: http://ww1.microchip.com/downloads/en/DeviceDoc/22036b.pdf; Description_: Simple, Miniature Single-Cell, Fully Integrated Li-Ion / Li-Polymer Charge Management Controllers, 50mA-500mA, 4.35V, SOT23-5
pins: 1 CE, 2 V_{SS}, 3 V_{BAT}, 4 V_{DD}, 5 PROG

## MCP73831-2-MC
designator *  value MCP73831-2-MC  Reference: U
Single cell, Li-Ion/Li-Po charge management controller, 4.20V, Tri-State Status Output, in DFN-8 package; ki_keywords: battery charger lithium; ki_fp_filters: DFN*3x2mm*P0.5mm*EP1.7x1.4mm*; Footprint: Package_DFN_QFN:DFN-8-1EP_3x2mm_P0.5mm_EP1.7x1.4mm; Datasheet: http://ww1.microchip.com/downloads/en/DeviceDoc/20001984g.pdf; Description_: Single cell, Li-Ion/Li-Po charge management controller, 4.20V, Tri-State Status Output, in DFN-8 package
pins: 1 V_{DD}, 2 V_{DD}, 3 V_{BAT}, 4 V_{BAT}, 5 STAT, 6 V_{SS}, 7 NC, 8 PROG

## MCP73831-2-OT
designator *  value MCP73831-2-OT  Reference: U
Single cell, Li-Ion/Li-Po charge management controller, 4.20V, Tri-State Status Output, in SOT23-5 package; ki_keywords: battery charger lithium; ki_fp_filters: SOT?23*; Footprint: Package_TO_SOT_SMD:SOT-23-5; Datasheet: http://ww1.microchip.com/downloads/en/DeviceDoc/20001984g.pdf; Description_: Single cell, Li-Ion/Li-Po charge management controller, 4.20V, Tri-State Status Output, in SOT23-5 package
pins: 1 STAT, 2 V_{SS}, 3 V_{BAT}, 4 V_{DD}, 5 PROG

## MCP73831-3-MC
designator *  value MCP73831-3-MC  Reference: U
Single cell, Li-Ion/Li-Po charge management controller, 4.35V, Tri-State Status Output, in DFN-8 package; ki_keywords: battery charger lithium; ki_fp_filters: DFN*3x2mm*P0.5mm*EP1.7x1.4mm*; Footprint: Package_DFN_QFN:DFN-8-1EP_3x2mm_P0.5mm_EP1.7x1.4mm; Datasheet: http://ww1.microchip.com/downloads/en/DeviceDoc/20001984g.pdf; Description_: Single cell, Li-Ion/Li-Po charge management controller, 4.35V, Tri-State Status Output, in DFN-8 package
pins: 1 V_{DD}, 2 V_{DD}, 3 V_{BAT}, 4 V_{BAT}, 5 STAT, 6 V_{SS}, 7 NC, 8 PROG

## MCP73831-3-OT
designator *  value MCP73831-3-OT  Reference: U
Single cell, Li-Ion/Li-Po charge management controller, 4.35V, Tri-State Status Output, in SOT23-5 package; ki_keywords: battery charger lithium; ki_fp_filters: SOT?23*; Footprint: Package_TO_SOT_SMD:SOT-23-5; Datasheet: http://ww1.microchip.com/downloads/en/DeviceDoc/20001984g.pdf; Description_: Single cell, Li-Ion/Li-Po charge management controller, 4.35V, Tri-State Status Output, in SOT23-5 package
pins: 1 STAT, 2 V_{SS}, 3 V_{BAT}, 4 V_{DD}, 5 PROG

## MCP73831-4-MC
designator *  value MCP73831-4-MC  Reference: U
Single cell, Li-Ion/Li-Po charge management controller, 4.40V, Tri-State Status Output, in DFN-8 package; ki_keywords: battery charger lithium; ki_fp_filters: DFN*3x2mm*P0.5mm*EP1.7x1.4mm*; Footprint: Package_DFN_QFN:DFN-8-1EP_3x2mm_P0.5mm_EP1.7x1.4mm; Datasheet: http://ww1.microchip.com/downloads/en/DeviceDoc/20001984g.pdf; Description_: Single cell, Li-Ion/Li-Po charge management controller, 4.40V, Tri-State Status Output, in DFN-8 package
pins: 1 V_{DD}, 2 V_{DD}, 3 V_{BAT}, 4 V_{BAT}, 5 STAT, 6 V_{SS}, 7 NC, 8 PROG

## MCP73831-4-OT
designator *  value MCP73831-4-OT  Reference: U
Single cell, Li-Ion/Li-Po charge management controller, 4.40V, Tri-State Status Output, in SOT23-5 package; ki_keywords: battery charger lithium; ki_fp_filters: SOT?23*; Footprint: Package_TO_SOT_SMD:SOT-23-5; Datasheet: http://ww1.microchip.com/downloads/en/DeviceDoc/20001984g.pdf; Description_: Single cell, Li-Ion/Li-Po charge management controller, 4.40V, Tri-State Status Output, in SOT23-5 package
pins: 1 STAT, 2 V_{SS}, 3 V_{BAT}, 4 V_{DD}, 5 PROG

## MCP73831-5-MC
designator *  value MCP73831-5-MC  Reference: U
Single cell, Li-Ion/Li-Po charge management controller, 4.50V, Tri-State Status Output, in DFN-8 package; ki_keywords: battery charger lithium; ki_fp_filters: DFN*3x2mm*P0.5mm*EP1.7x1.4mm*; Footprint: Package_DFN_QFN:DFN-8-1EP_3x2mm_P0.5mm_EP1.7x1.4mm; Datasheet: http://ww1.microchip.com/downloads/en/DeviceDoc/20001984g.pdf; Description_: Single cell, Li-Ion/Li-Po charge management controller, 4.50V, Tri-State Status Output, in DFN-8 package
pins: 1 V_{DD}, 2 V_{DD}, 3 V_{BAT}, 4 V_{BAT}, 5 STAT, 6 V_{SS}, 7 NC, 8 PROG

## MCP73831-5-OT
designator *  value MCP73831-5-OT  Reference: U
Single cell, Li-Ion/Li-Po charge management controller, 4.50V, Tri-State Status Output, in SOT23-5 package; ki_keywords: battery charger lithium; ki_fp_filters: SOT?23*; Footprint: Package_TO_SOT_SMD:SOT-23-5; Datasheet: http://ww1.microchip.com/downloads/en/DeviceDoc/20001984g.pdf; Description_: Single cell, Li-Ion/Li-Po charge management controller, 4.50V, Tri-State Status Output, in SOT23-5 package
pins: 1 STAT, 2 V_{SS}, 3 V_{BAT}, 4 V_{DD}, 5 PROG

## MCP73832-2-MC
designator *  value MCP73832-2-MC  Reference: U
Single cell, Li-Ion/Li-Po charge management controller, 4.20V, Open-Drain Status Output, in DFN-8 package; ki_keywords: battery charger lithium; ki_fp_filters: DFN*3x2mm*P0.5mm*EP1.7x1.4mm*; Footprint: Package_DFN_QFN:DFN-8-1EP_3x2mm_P0.5mm_EP1.7x1.4mm; Datasheet: http://ww1.microchip.com/downloads/en/DeviceDoc/20001984g.pdf; Description_: Single cell, Li-Ion/Li-Po charge management controller, 4.20V, Open-Drain Status Output, in DFN-8 package
pins: 1 V_{DD}, 2 V_{DD}, 3 V_{BAT}, 4 V_{BAT}, 5 STAT, 6 V_{SS}, 7 NC, 8 PROG

## MCP73832-2-OT
designator *  value MCP73832-2-OT  Reference: U
Single cell, Li-Ion/Li-Po charge management controller, 4.20V, Open-Drain Status Output, in SOT23-5 package; ki_keywords: battery charger lithium; ki_fp_filters: SOT?23*; Footprint: Package_TO_SOT_SMD:SOT-23-5; Datasheet: http://ww1.microchip.com/downloads/en/DeviceDoc/20001984g.pdf; Description_: Single cell, Li-Ion/Li-Po charge management controller, 4.20V, Open-Drain Status Output, in SOT23-5 package
pins: 1 STAT, 2 V_{SS}, 3 V_{BAT}, 4 V_{DD}, 5 PROG

## MCP73832-3-MC
designator *  value MCP73832-3-MC  Reference: U
Single cell, Li-Ion/Li-Po charge management controller, 4.35V, Open-Drain Status Output, in DFN-8 package; ki_keywords: battery charger lithium; ki_fp_filters: DFN*3x2mm*P0.5mm*EP1.7x1.4mm*; Footprint: Package_DFN_QFN:DFN-8-1EP_3x2mm_P0.5mm_EP1.7x1.4mm; Datasheet: http://ww1.microchip.com/downloads/en/DeviceDoc/20001984g.pdf; Description_: Single cell, Li-Ion/Li-Po charge management controller, 4.35V, Open-Drain Status Output, in DFN-8 package
pins: 1 V_{DD}, 2 V_{DD}, 3 V_{BAT}, 4 V_{BAT}, 5 STAT, 6 V_{SS}, 7 NC, 8 PROG

## MCP73832-3-OT
designator *  value MCP73832-3-OT  Reference: U
Single cell, Li-Ion/Li-Po charge management controller, 4.35V, Open-Drain Status Output, in SOT23-5 package; ki_keywords: battery charger lithium; ki_fp_filters: SOT?23*; Footprint: Package_TO_SOT_SMD:SOT-23-5; Datasheet: http://ww1.microchip.com/downloads/en/DeviceDoc/20001984g.pdf; Description_: Single cell, Li-Ion/Li-Po charge management controller, 4.35V, Open-Drain Status Output, in SOT23-5 package
pins: 1 STAT, 2 V_{SS}, 3 V_{BAT}, 4 V_{DD}, 5 PROG

## MCP73832-4-MC
designator *  value MCP73832-4-MC  Reference: U
Single cell, Li-Ion/Li-Po charge management controller, 4.40V, Open-Drain Status Output, in DFN-8 package; ki_keywords: battery charger lithium; ki_fp_filters: DFN*3x2mm*P0.5mm*EP1.7x1.4mm*; Footprint: Package_DFN_QFN:DFN-8-1EP_3x2mm_P0.5mm_EP1.7x1.4mm; Datasheet: http://ww1.microchip.com/downloads/en/DeviceDoc/20001984g.pdf; Description_: Single cell, Li-Ion/Li-Po charge management controller, 4.40V, Open-Drain Status Output, in DFN-8 package
pins: 1 V_{DD}, 2 V_{DD}, 3 V_{BAT}, 4 V_{BAT}, 5 STAT, 6 V_{SS}, 7 NC, 8 PROG

## MCP73832-4-OT
designator *  value MCP73832-4-OT  Reference: U
Single cell, Li-Ion/Li-Po charge management controller, 4.40V, Open-Drain Status Output, in SOT23-5 package; ki_keywords: battery charger lithium; ki_fp_filters: SOT?23*; Footprint: Package_TO_SOT_SMD:SOT-23-5; Datasheet: http://ww1.microchip.com/downloads/en/DeviceDoc/20001984g.pdf; Description_: Single cell, Li-Ion/Li-Po charge management controller, 4.40V, Open-Drain Status Output, in SOT23-5 package
pins: 1 STAT, 2 V_{SS}, 3 V_{BAT}, 4 V_{DD}, 5 PROG

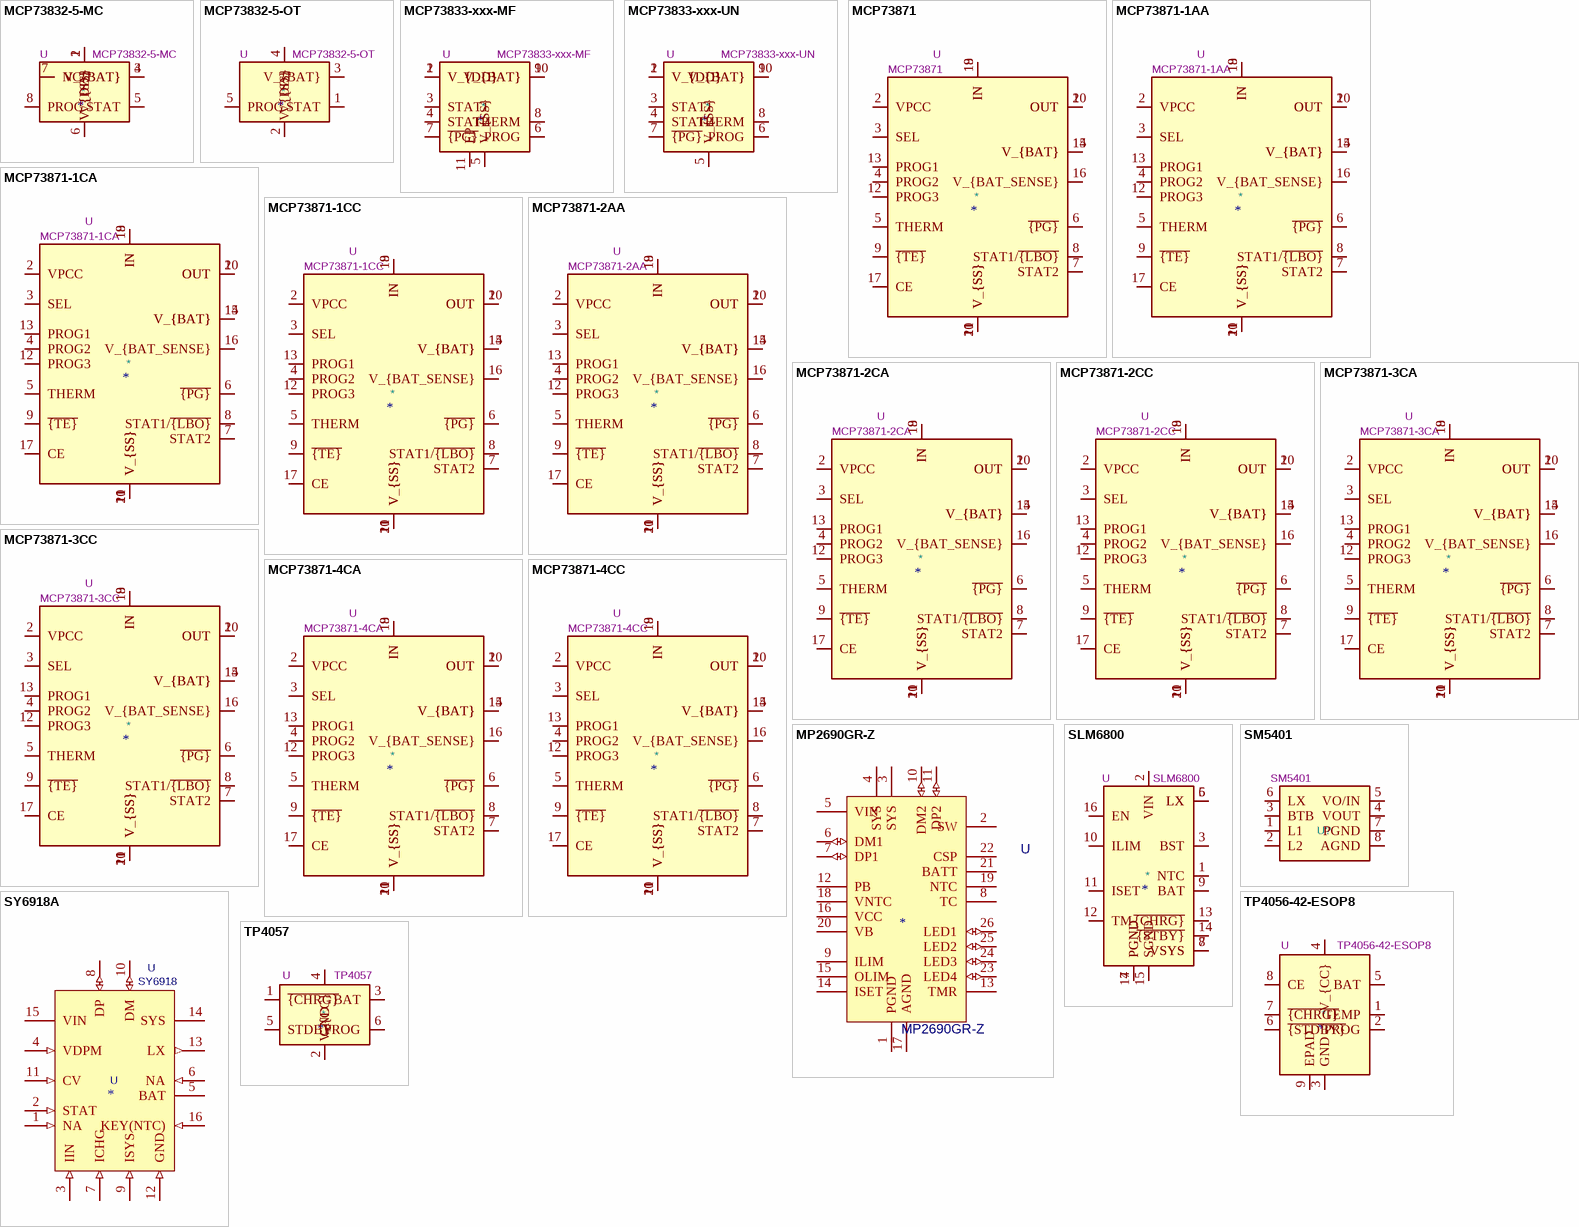
[diagram p4: symbols MCP73832-5-MC to TP4057]

## MCP73832-5-MC
designator *  value MCP73832-5-MC  Reference: U
Single cell, Li-Ion/Li-Po charge management controller, 4.50V, Open-Drain Status Output, in DFN-8 package; ki_keywords: battery charger lithium; ki_fp_filters: DFN*3x2mm*P0.5mm*EP1.7x1.4mm*; Footprint: Package_DFN_QFN:DFN-8-1EP_3x2mm_P0.5mm_EP1.7x1.4mm; Datasheet: http://ww1.microchip.com/downloads/en/DeviceDoc/20001984g.pdf; Description_: Single cell, Li-Ion/Li-Po charge management controller, 4.50V, Open-Drain Status Output, in DFN-8 package
pins: 1 V_{DD}, 2 V_{DD}, 3 V_{BAT}, 4 V_{BAT}, 5 STAT, 6 V_{SS}, 7 NC, 8 PROG

## MCP73832-5-OT
designator *  value MCP73832-5-OT  Reference: U
Single cell, Li-Ion/Li-Po charge management controller, 4.50V, Open-Drain Status Output, in SOT23-5 package; ki_keywords: battery charger lithium; ki_fp_filters: SOT?23*; Footprint: Package_TO_SOT_SMD:SOT-23-5; Datasheet: http://ww1.microchip.com/downloads/en/DeviceDoc/20001984g.pdf; Description_: Single cell, Li-Ion/Li-Po charge management controller, 4.50V, Open-Drain Status Output, in SOT23-5 package
pins: 1 STAT, 2 V_{SS}, 3 V_{BAT}, 4 V_{DD}, 5 PROG

## MCP73833-xxx-MF
designator *  value MCP73833-xxx-MF  Reference: U
Stand-Alone Linear Li-Ion / Li-Polymer Charge Management Controller, DFN-10; ki_keywords: lithium-ion battery charger; ki_fp_filters: DFN*1EP*3x3mm*P0.5mm*EP1.58x2.35mm*; Footprint: Package_DFN_QFN:DFN-10-1EP_3x3mm_P0.5mm_EP1.58x2.35mm; Datasheet: https://ww1.microchip.com/downloads/aemDocuments/documents/OTH/ProductDocuments/DataSheets/22005b.pdf; Description_: Stand-Alone Linear Li-Ion / Li-Polymer Charge Management Controller, DFN-10
pins: 1 V_{DD}, 2 V_{DD}, 3 STAT1, 4 STAT2, 5 V_{SS}, 6 PROG, 7 ~{{PG}}, 8 THERM, 9 V_{BAT}, 10 V_{BAT}, 11 EP

## MCP73833-xxx-UN
designator *  value MCP73833-xxx-UN  Reference: U
Stand-Alone Linear Li-Ion / Li-Polymer Charge Management Controller, MSOP-10; ki_keywords: lithium-ion battery charger; ki_fp_filters: MSOP*3x3mm*P0.5mm*; Footprint: Package_SO:MSOP-10_3x3mm_P0.5mm; Datasheet: https://ww1.microchip.com/downloads/aemDocuments/documents/OTH/ProductDocuments/DataSheets/22005b.pdf; Description_: Stand-Alone Linear Li-Ion / Li-Polymer Charge Management Controller, MSOP-10
pins: 1 V_{DD}, 2 V_{DD}, 3 STAT1, 4 STAT2, 5 V_{SS}, 6 PROG, 7 ~{{PG}}, 8 THERM, 9 V_{BAT}, 10 V_{BAT}

## MCP73871
designator *  value MCP73871  Reference: U
Single cell, Li-Ion/Li-Po charge management controller; ki_keywords: battery charger lithium; ki_fp_filters: QFN*4x4mm*P0.5mm*; Footprint: Package_DFN_QFN:QFN-20-1EP_4x4mm_P0.5mm_EP2.5x2.5mm; Datasheet: http://www.mouser.com/ds/2/268/22090a-52174.pdf; Description_: Single cell, Li-Ion/Li-Po charge management controller
pins: 1 OUT, 2 VPCC, 3 SEL, 4 PROG2, 5 THERM, 6 ~{{PG}}, 7 STAT2, 8 STAT1/~{{LBO}}, 9 ~{{TE}}, 10 V_{SS}, 11 V_{SS}, 12 PROG3, 13 PROG1, 14 V_{BAT}, 15 V_{BAT}, 16 V_{BAT_SENSE}, 17 CE, 18 IN, 19 IN, 20 OUT, 21 V_{SS}

## MCP73871-1AA
designator *  value MCP73871-1AA  Reference: U
Single cell, Li-Ion/Li-Po charge management controller, 4.10V; ki_keywords: battery charger lithium; ki_fp_filters: QFN*4x4mm*P0.5mm*; Footprint: Package_DFN_QFN:QFN-20-1EP_4x4mm_P0.5mm_EP2.5x2.5mm; Datasheet: http://www.mouser.com/ds/2/268/22090a-52174.pdf; Description_: Single cell, Li-Ion/Li-Po charge management controller, 4.10V
pins: 1 OUT, 2 VPCC, 3 SEL, 4 PROG2, 5 THERM, 6 ~{{PG}}, 7 STAT2, 8 STAT1/~{{LBO}}, 9 ~{{TE}}, 10 V_{SS}, 11 V_{SS}, 12 PROG3, 13 PROG1, 14 V_{BAT}, 15 V_{BAT}, 16 V_{BAT_SENSE}, 17 CE, 18 IN, 19 IN, 20 OUT, 21 V_{SS}

## MCP73871-1CA
designator *  value MCP73871-1CA  Reference: U
Single cell, Li-Ion/Li-Po charge management controller, 4.10V, 6h safety timer; ki_keywords: battery charger lithium; ki_fp_filters: QFN*4x4mm*P0.5mm*; Footprint: Package_DFN_QFN:QFN-20-1EP_4x4mm_P0.5mm_EP2.5x2.5mm; Datasheet: http://www.mouser.com/ds/2/268/22090a-52174.pdf; Description_: Single cell, Li-Ion/Li-Po charge management controller, 4.10V, 6h safety timer
pins: 1 OUT, 2 VPCC, 3 SEL, 4 PROG2, 5 THERM, 6 ~{{PG}}, 7 STAT2, 8 STAT1/~{{LBO}}, 9 ~{{TE}}, 10 V_{SS}, 11 V_{SS}, 12 PROG3, 13 PROG1, 14 V_{BAT}, 15 V_{BAT}, 16 V_{BAT_SENSE}, 17 CE, 18 IN, 19 IN, 20 OUT, 21 V_{SS}

## MCP73871-1CC
designator *  value MCP73871-1CC  Reference: U
Single cell, Li-Ion/Li-Po charge management controller, 4.10V, 6h safety timer, 3.1V LBO threshold; ki_keywords: battery charger lithium; ki_fp_filters: QFN*4x4mm*P0.5mm*; Footprint: Package_DFN_QFN:QFN-20-1EP_4x4mm_P0.5mm_EP2.5x2.5mm; Datasheet: http://www.mouser.com/ds/2/268/22090a-52174.pdf; Description_: Single cell, Li-Ion/Li-Po charge management controller, 4.10V, 6h safety timer, 3.1V LBO threshold
pins: 1 OUT, 2 VPCC, 3 SEL, 4 PROG2, 5 THERM, 6 ~{{PG}}, 7 STAT2, 8 STAT1/~{{LBO}}, 9 ~{{TE}}, 10 V_{SS}, 11 V_{SS}, 12 PROG3, 13 PROG1, 14 V_{BAT}, 15 V_{BAT}, 16 V_{BAT_SENSE}, 17 CE, 18 IN, 19 IN, 20 OUT, 21 V_{SS}

## MCP73871-2AA
designator *  value MCP73871-2AA  Reference: U
Single cell, Li-Ion/Li-Po charge management controller, 4.20V; ki_keywords: battery charger lithium; ki_fp_filters: QFN*4x4mm*P0.5mm*; Footprint: Package_DFN_QFN:QFN-20-1EP_4x4mm_P0.5mm_EP2.5x2.5mm; Datasheet: http://www.mouser.com/ds/2/268/22090a-52174.pdf; Description_: Single cell, Li-Ion/Li-Po charge management controller, 4.20V
pins: 1 OUT, 2 VPCC, 3 SEL, 4 PROG2, 5 THERM, 6 ~{{PG}}, 7 STAT2, 8 STAT1/~{{LBO}}, 9 ~{{TE}}, 10 V_{SS}, 11 V_{SS}, 12 PROG3, 13 PROG1, 14 V_{BAT}, 15 V_{BAT}, 16 V_{BAT_SENSE}, 17 CE, 18 IN, 19 IN, 20 OUT, 21 V_{SS}

## MCP73871-2CA
designator *  value MCP73871-2CA  Reference: U
Single cell, Li-Ion/Li-Po charge management controller, 4.20V, 6h safety timer; ki_keywords: battery charger lithium; ki_fp_filters: QFN*4x4mm*P0.5mm*; Footprint: Package_DFN_QFN:QFN-20-1EP_4x4mm_P0.5mm_EP2.5x2.5mm; Datasheet: http://www.mouser.com/ds/2/268/22090a-52174.pdf; Description_: Single cell, Li-Ion/Li-Po charge management controller, 4.20V, 6h safety timer
pins: 1 OUT, 2 VPCC, 3 SEL, 4 PROG2, 5 THERM, 6 ~{{PG}}, 7 STAT2, 8 STAT1/~{{LBO}}, 9 ~{{TE}}, 10 V_{SS}, 11 V_{SS}, 12 PROG3, 13 PROG1, 14 V_{BAT}, 15 V_{BAT}, 16 V_{BAT_SENSE}, 17 CE, 18 IN, 19 IN, 20 OUT, 21 V_{SS}

## MCP73871-2CC
designator *  value MCP73871-2CC  Reference: U
Single cell, Li-Ion/Li-Po charge management controller, 4.20V, 6h safety timer, 3.1V LBO threshold; ki_keywords: battery charger lithium; ki_fp_filters: QFN*4x4mm*P0.5mm*; Footprint: Package_DFN_QFN:QFN-20-1EP_4x4mm_P0.5mm_EP2.5x2.5mm; Datasheet: http://www.mouser.com/ds/2/268/22090a-52174.pdf; Description_: Single cell, Li-Ion/Li-Po charge management controller, 4.20V, 6h safety timer, 3.1V LBO threshold
pins: 1 OUT, 2 VPCC, 3 SEL, 4 PROG2, 5 THERM, 6 ~{{PG}}, 7 STAT2, 8 STAT1/~{{LBO}}, 9 ~{{TE}}, 10 V_{SS}, 11 V_{SS}, 12 PROG3, 13 PROG1, 14 V_{BAT}, 15 V_{BAT}, 16 V_{BAT_SENSE}, 17 CE, 18 IN, 19 IN, 20 OUT, 21 V_{SS}

## MCP73871-3CA
designator *  value MCP73871-3CA  Reference: U
Single cell, Li-Ion/Li-Po charge management controller, 4.35V, 6h safety timer; ki_keywords: battery charger lithium; ki_fp_filters: QFN*4x4mm*P0.5mm*; Footprint: Package_DFN_QFN:QFN-20-1EP_4x4mm_P0.5mm_EP2.5x2.5mm; Datasheet: http://www.mouser.com/ds/2/268/22090a-52174.pdf; Description_: Single cell, Li-Ion/Li-Po charge management controller, 4.35V, 6h safety timer
pins: 1 OUT, 2 VPCC, 3 SEL, 4 PROG2, 5 THERM, 6 ~{{PG}}, 7 STAT2, 8 STAT1/~{{LBO}}, 9 ~{{TE}}, 10 V_{SS}, 11 V_{SS}, 12 PROG3, 13 PROG1, 14 V_{BAT}, 15 V_{BAT}, 16 V_{BAT_SENSE}, 17 CE, 18 IN, 19 IN, 20 OUT, 21 V_{SS}

## MCP73871-3CC
designator *  value MCP73871-3CC  Reference: U
Single cell, Li-Ion/Li-Po charge management controller, 4.35V, 6h safety timer, 3.1V LBO threshold; ki_keywords: battery charger lithium; ki_fp_filters: QFN*4x4mm*P0.5mm*; Footprint: Package_DFN_QFN:QFN-20-1EP_4x4mm_P0.5mm_EP2.5x2.5mm; Datasheet: http://www.mouser.com/ds/2/268/22090a-52174.pdf; Description_: Single cell, Li-Ion/Li-Po charge management controller, 4.35V, 6h safety timer, 3.1V LBO threshold
pins: 1 OUT, 2 VPCC, 3 SEL, 4 PROG2, 5 THERM, 6 ~{{PG}}, 7 STAT2, 8 STAT1/~{{LBO}}, 9 ~{{TE}}, 10 V_{SS}, 11 V_{SS}, 12 PROG3, 13 PROG1, 14 V_{BAT}, 15 V_{BAT}, 16 V_{BAT_SENSE}, 17 CE, 18 IN, 19 IN, 20 OUT, 21 V_{SS}

## MCP73871-4CA
designator *  value MCP73871-4CA  Reference: U
Single cell, Li-Ion/Li-Po charge management controller, 4.40V, 6h safety timer; ki_keywords: battery charger lithium; ki_fp_filters: QFN*4x4mm*P0.5mm*; Footprint: Package_DFN_QFN:QFN-20-1EP_4x4mm_P0.5mm_EP2.5x2.5mm; Datasheet: http://www.mouser.com/ds/2/268/22090a-52174.pdf; Description_: Single cell, Li-Ion/Li-Po charge management controller, 4.40V, 6h safety timer
pins: 1 OUT, 2 VPCC, 3 SEL, 4 PROG2, 5 THERM, 6 ~{{PG}}, 7 STAT2, 8 STAT1/~{{LBO}}, 9 ~{{TE}}, 10 V_{SS}, 11 V_{SS}, 12 PROG3, 13 PROG1, 14 V_{BAT}, 15 V_{BAT}, 16 V_{BAT_SENSE}, 17 CE, 18 IN, 19 IN, 20 OUT, 21 V_{SS}

## MCP73871-4CC
designator *  value MCP73871-4CC  Reference: U
Single cell, Li-Ion/Li-Po charge management controller, 4.40V, 6h safety timer, 3.1V LBO threshold; ki_keywords: battery charger lithium; ki_fp_filters: QFN*4x4mm*P0.5mm*; Footprint: Package_DFN_QFN:QFN-20-1EP_4x4mm_P0.5mm_EP2.5x2.5mm; Datasheet: http://www.mouser.com/ds/2/268/22090a-52174.pdf; Description_: Single cell, Li-Ion/Li-Po charge management controller, 4.40V, 6h safety timer, 3.1V LBO threshold
pins: 1 OUT, 2 VPCC, 3 SEL, 4 PROG2, 5 THERM, 6 ~{{PG}}, 7 STAT2, 8 STAT1/~{{LBO}}, 9 ~{{TE}}, 10 V_{SS}, 11 V_{SS}, 12 PROG3, 13 PROG1, 14 V_{BAT}, 15 V_{BAT}, 16 V_{BAT_SENSE}, 17 CE, 18 IN, 19 IN, 20 OUT, 21 V_{SS}

## MP2690GR-Z
designator U  value MP2690GR-Z
ki_fp_filters: QFN-26_MP2690_MNP; Footprint: QFN-26_MP2690_MNP; Supplier: https://www.monolithicpower.com/en/documentview/productdocument/index/version/2/document_type/Datasheet/lang/en/sku/MP2690; ki_keywords: MP2690GR-Z
footprint QFN-26_4x4mm_P0.5-0.55mm_MP2690-MNP
pins: 1 PGND (power), 2 SW, 3 SYS, 4 SYS, 5 VIN, 6 DM1 (io), 7 DP1 (io), 8 TC, 9 ILIM, 10 DM2 (io), 11 DP2 (io), 12 PB, 13 TMR, 14 ISET, 15 OLIM, 16 VCC (power), 17 AGND (power), 18 VNTC, 19 NTC, 20 VB, 21 BATT, 22 CSP, 23 LED4 (io), 24 LED3 (io), 25 LED2 (io), 26 LED1 (io)

## SLM6800
designator *  value SLM6800  Reference: U
1.5A, 2-Cell 8.4V, standalone switch-mode Li-Ion Charger, 5Vin, 750kHz, QFN-16; ki_keywords: battery charger dual-cell two-cell li-ion li-poly; ki_fp_filters: QFN*1EP*4x4mm*P0.65mm*; Footprint: Package_DFN_QFN:QFN-16-1EP_4x4mm_P0.65mm_EP2.15x2.15mm; Datasheet: https://datasheet.lcsc.com/lcsc/1912111437_SOLA-IC-SLM6800_C388594.pdf; Description_: 1.5A, 2-Cell 8.4V, standalone switch-mode Li-Ion Charger, 5Vin, 750kHz, QFN-16
pins: 1 NTC, 2 VIN, 3 BST, 4 PGND, 5 LX, 6 LX, 7 VSYS, 8 VSYS, 9 BAT, 10 ILIM, 11 ISET, 12 TM, 13 ~{{CHRG}}, 14 ~{{STBY}}, 15 SGND, 16 EN, 17 PGND

## SM5401
designator U?
Battery Charging IC Lithium Battery SOP-8, SOIC-8 (SOP-8); ki_keywords: lithium-ion lithium-polymer Li-Poly; ki_fp_filters: *SO*3.9x4.*P1.27mm*EP2.4*x3.3*mm*; Reference: U; Footprint: Package_SO:SOIC-8-1EP_3.9x4.9mm_P1.27mm_EP2.41x3.3mm_ThermalVias; Datasheet: https://www.lcsc.com/datasheet/C5345580.pdf; Description_: Battery Charging IC Lithium Battery SOP-8, SOIC-8 (SOP-8); Value: SM5401
footprint SO-8_3.9x4.9mm_P1.27mm
pins: 1 L1, 2 L2, 3 BTB, 4 VOUT (power), 5 VO/IN (power), 6 LX, 7 PGND, 8 AGND

## SY6918A
designator U  value SY6918  Reference: U
High Efficiency Bi-Direction Power Bank Regulator / for Single-Cell Battery Power Bank; Footprint: Silergy:SY6918_QFN-16_3x3mm
footprint QFN-16_3x3mm_SY6918A
pins: 1 NA (in), 2 STAT (in), 3 IIN (in), 4 VDPM (in), 5 BAT (power), 6 NA (in), 7 ICHG (in), 8 DP (io), 9 ISYS (in), 10 DM (io), 11 CV (in), 12 GND (in), 13 LX (out), 14 SYS (power), 15 VIN (power), 16 KEY(NTC) (in)

## TP4056-42-ESOP8
designator *  value TP4056-42-ESOP8  Reference: U
1A Standalone Linear Li-ion/LiPo single-cell battery charger, 4.2V ±1% charge voltage, VCC = 4.0..8.0V, SOIC-8 (SOP-8); ki_keywords: lithium-ion lithium-polymer Li-Poly; ki_fp_filters: *SO*3.9x4.*P1.27mm*EP2.4*x3.3*mm*; Footprint: Package_SO:SOIC-8-1EP_3.9x4.9mm_P1.27mm_EP2.41x3.3mm_ThermalVias; Datasheet: https://www.lcsc.com/datasheet/lcsc_datasheet_2410121619_TOPPOWER-Nanjing-Extension-Microelectronics-TP4056-42-ESOP8_C16581.pdf; Description_: 1A Standalone Linear Li-ion/LiPo single-cell battery charger, 4.2V ±1% charge voltage, VCC = 4.0..8.0V, SOIC-8 (SOP-8)
pins: 1 TEMP, 2 PROG, 3 GND, 4 V_{CC}, 5 BAT, 6 ~{{STDBY}}, 7 ~{{CHRG}}, 8 CE, 9 EPAD

## TP4057
designator *  value TP4057  Reference: U
Constant-current/constant-voltage linear charger for single cell lithium-ion batteries with 2.9V Trickle Charge, 4.5V to 6.5V VDD, -40 to +85 degree Celsius, TSOT-23-6; ki_keywords: Constant-current constant-voltage linear charger single-cell lithium-ion battery; ki_fp_filters: TSOT?23*; Footprint: Package_TO_SOT_SMD:TSOT-23-6; Datasheet: http://toppwr.com/uploadfile/file/20230304/640302a47b738.pdf; Description_: Constant-current/constant-voltage linear charger for single cell lithium-ion batteries with 2.9V Trickle Charge, 4.5V to 6.5V VDD, -40 to +85 degree Celsius, TSOT-23-6
pins: 1 ~{{CHRG}}, 2 GND, 3 BAT, 4 V_{CC}, 5 STDBY, 6 PROG